# Altium footprint library SM_R-4up-1206-convex_HD.PcbLib: 1 footprints
Each footprint in its own frame and in the unit in brackets; x right, y up, seen from the top. Pads: shape width x height; smd on the part's side, far side on the other; paste and mask are expansions set on the pad; w line width, h text height; cw(c..) or ccw(c..) is an arc to the next point about the centre after c.
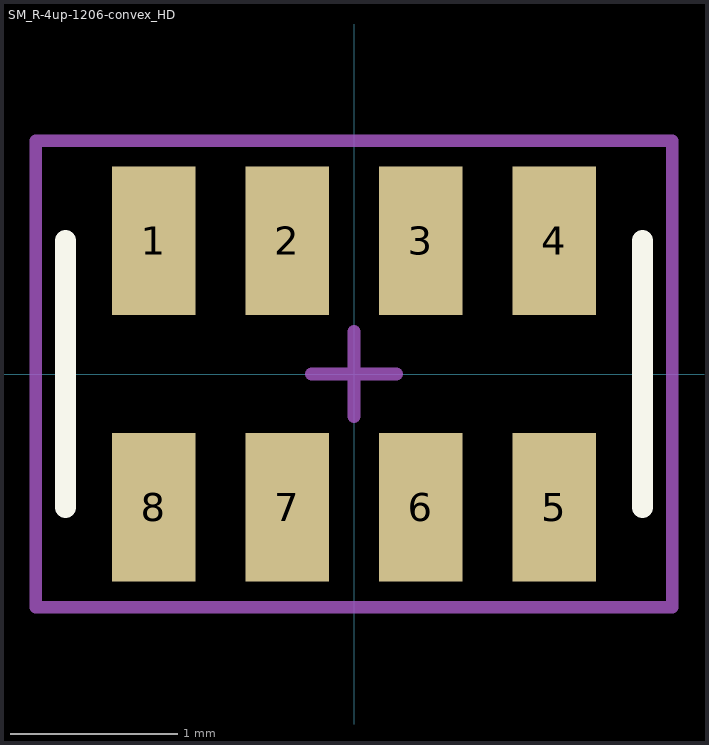
[diagram p0: the footprint, top view; thin cyan lines are the x and y axes]

## SM_R-4up-1206-convex_HD [mm] "4 up resistor array in 1206 package"
pads (8):
  rect 0.5x0.889 smd mask+0.076: 1(-1.2,0.798) 2(-0.4,0.798) 3(0.4,0.798) 4(1.2,0.798) 5(1.2,-0.798) 6(0.4,-0.798) 7(-0.4,-0.798) 8(-1.2,-0.798)
Top Overlay:
  lines w0.127: -1.727,-0.8 -1.727,0.8 ; 1.727,-0.8 1.727,0.8
Mechanical 15:
  lines w0.076: -0.254,0 0.254,0 ; 0,-0.254 0,0.254 ; -1.905,-1.397 1.905,-1.397 1.905,1.397 -1.905,1.397 -1.905,-1.397
3D body: height 0.49, standoff 0, extent -1.45,-0.8 1.45,-0.5
3D body: height 0.49, standoff 0, extent -1.45,0.5 1.45,0.8
3D body: height 0.48, standoff 0, extent -1.6,-0.8 1.6,0.8